# EAGLE library part BA6110FS (library pedals-ota)
OTA with buffer
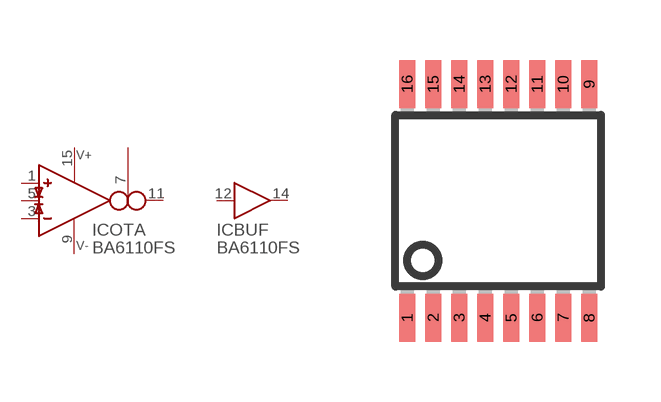
[diagram p7: symbol with the pads of SSOP16; footprint SSOP16]

Designator prefix IC; gates OTA=OTA_DIODES_INVERS BUF=BUFFER SUPPLY=OTA_SUPPLY

## BA6110FS  [SSOP16]
1  OTA:IN_P  in
3  OTA:IN_N  in
5  OTA:I_DIODE  in
7  OTA:I_BIAS  in
9  SUPPLY:V-  sup
11  OTA:OUT  out
12  BUF:IN_N1  in
14  BUF:OUT  out
15  SUPPLY:V+  sup

## Footprint SSOP16 (pad centres in mm)
Small Shrink Outline Package
smd 0.4 x 1.2: 1 -2.275,-2.925; 2 -1.625,-2.925; 3 -0.975,-2.925; 4 -0.325,-2.925; 5 0.325,-2.925; 6 0.975,-2.925; 7 1.625,-2.925; 8 2.275,-2.925; 9 2.275,2.925; 10 1.625,2.925; 11 0.975,2.925; 12 0.325,2.925; 13 -0.325,2.925; 14 -0.975,2.925; 15 -1.625,2.925; 16 -2.275,2.925